# Altium footprint library SOIC127P600X175-8N.PcbLib: 1 footprints
Each footprint in its own frame and in the unit in brackets; x right, y up, seen from the top. Pads: shape width x height; smd on the part's side, far side on the other; paste and mask are expansions set on the pad; w line width, h text height; cw(c..) or ccw(c..) is an arc to the next point about the centre after c.
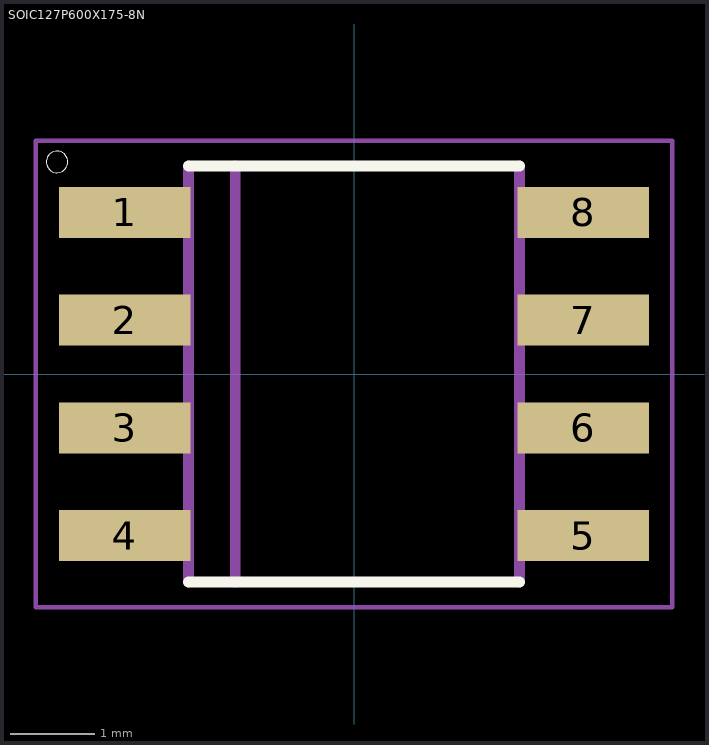
[diagram p0: the footprint, top view; thin cyan lines are the x and y axes]

## SOIC127P600X175-8N [mm]
pads (8):
  rect 1.55x0.6 smd: 1(-2.7,1.905) 2(-2.7,0.635) 3(-2.7,-0.635) 4(-2.7,-1.905) 5(2.7,-1.905) 6(2.7,-0.635) 7(2.7,0.635) 8(2.7,1.905)
Top Overlay:
  circle w0: c-3.5,2.5 r0.127
  lines w0.127: -1.95,-2.45 1.95,-2.45 ; -1.95,2.45 1.95,2.45
Assembly Top:
  region: -2.003,1.659 -3.101,1.659 -3.101,2.153 -2.003,2.153
  region: -2.003,0.387 -3.103,0.387 -3.103,0.883 -2.003,0.883
  region: -2.001,-0.882 -3.102,-0.882 -3.102,-0.389 -2.001,-0.389
  region: -2,-2.155 -3.105,-2.155 -3.105,-1.66 -2,-1.66
  region: 3.107,-2.15 2,-2.15 2,-1.667 3.107,-1.667
  region: 3.103,-0.879 2.001,-0.879 2.001,-0.392 3.103,-0.392
  region: 3.102,0.392 2.002,0.392 2.002,0.878 3.102,0.878
  region: 3.1,1.661 2.001,1.661 2.001,2.15 3.1,2.15
  lines w0.127: -1.95,-2.45 -1.95,2.45 ; -1.4,-2.45 -1.4,2.45 ; 1.95,-2.45 1.95,2.45
Courtyard Top:
  lines w0.05: -3.75,-2.75 3.75,-2.75 3.75,2.75 -3.75,2.75 -3.75,-2.75
3D body "step_temp.STEP": height 1.75, standoff 0, extent -3,-2.45 3,2.45